# Altium integrated library MAX1968EUI_.IntLib: 1 symbol
Pins are listed as number, name and electrical type; pins without a type are passive.

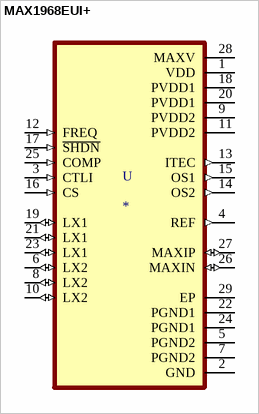
[diagram p0: symbol MAX1968EUI+]

## MAX1968EUI+
designator U
Thermoelectric Cooler PMIC 28-TSSOP-EP; MP: MAX1968EUI+; MF: Maxim Integrated; SnapEDA_Link: https://www.snapeda.com/parts/MAX1968EUI+/Maxim%20Integrated/view-part/43529/?ref=snap; Availability: Unavailable; Value: *; Package: TSSOP-28 Maxim; Price: None
footprint SOP65P637X110-29N
pins: 1 VDD (power), 2 GND (power), 3 CTLI (in), 4 REF (out), 5 PGND2 (power), 6 LX2 (io), 7 PGND2 (power), 8 LX2 (io), 9 PVDD2 (power), 10 LX2 (io), 11 PVDD2 (power), 12 FREQ (in), 13 ITEC (out), 14 OS2 (out), 15 OS1 (out), 16 CS (in), 17 ~{SHDN} (in), 18 PVDD1 (power), 19 LX1 (io), 20 PVDD1 (power), 21 LX1 (io), 22 PGND1 (power), 23 LX1 (io), 24 PGND1 (power), 25 COMP (in), 26 MAXIN (io), 27 MAXIP (io), 28 MAXV (power), 29 EP